# EAGLE library part MOLEX_503480 (library jcole)
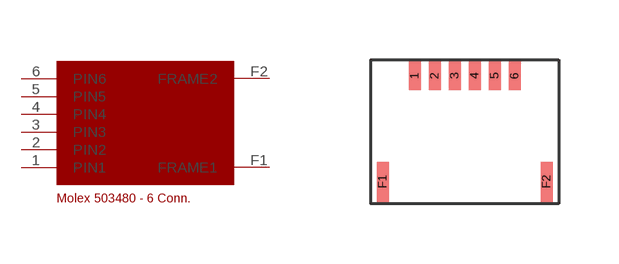
[diagram p4: symbol with the pads of MOLEX_503480; footprint MOLEX_503480]

Designator prefix -

## MOLEX_503480  [MOLEX_503480]
1  PIN1
2  PIN2
3  PIN3
4  PIN4
5  PIN5
6  PIN6
F1  FRAME1
F2  FRAME2

## Footprint MOLEX_503480 (pad centres in mm)
smd 0.3 x 0.7: 1 -1.25,1.4; 2 -0.75,1.4; 3 -0.25,1.4; 4 0.25,1.4; 5 0.75,1.4; 6 1.25,1.4
smd 0.3 x 1: F1 -2.05,-1.25; F2 2.05,-1.25